# Altium footprint library PCB - LED - CREE XLAMP XHP70.2 6V.PcbLib: 1 footprints
Each footprint in its own frame and in the unit in brackets; x right, y up, seen from the top. Pads: shape width x height; smd on the part's side, far side on the other; paste and mask are expansions set on the pad; w line width, h text height; cw(c..) or ccw(c..) is an arc to the next point about the centre after c.
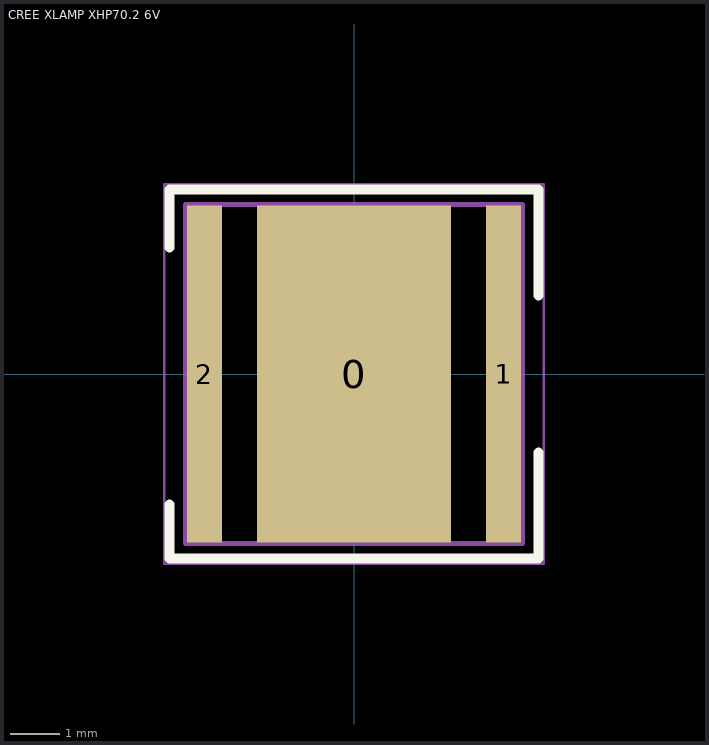
[diagram p0: the footprint, top view; thin cyan lines are the x and y axes]

## CREE XLAMP XHP70.2 6V [mm] "LED, 2-Leads, Body 6.75x6.76mm, CREE XHP70.2, 6V"
height 4.34
pads (3):
  rect 3.9x6.76 smd: 0(0,0)
  rect 0.7x6.76 smd: 1(3,0) 2(-3,0)
Top Overlay:
  lines w0.2: -3.7,-2.612 -3.7,-3.7 3.65,-3.7 ; -3.7,2.537 -3.7,3.662 ; -3.7,3.7 3.7,3.7 3.7,1.575 ; 3.7,-3.7 3.7,-1.575
Mechanical 13:
  lines w0.1: -3.375,-3.4 3.375,-3.4 ; -3.375,-3.38 -3.375,3.38 ; -3.375,3.4 3.375,3.4 ; 3.375,-3.38 3.375,3.38
Mechanical 15 (Mech15):
  lines w0.05: -3.8,-3.8 -3.8,3.8 3.8,3.8 3.8,-3.8 -3.8,-3.8
  lines w0.1: -0.3,0 0.3,0 ; 0,0.3 0,0 ; 0,0 0,-0.3 0,0
3D body "Cree XHP 70 B.step": height 4.34, standoff 0, extent -3.5,-3.5 3.5,3.5